# Altium footprint library HCPL4504.PcbLib: 1 footprints
Each footprint in its own frame and in the unit in brackets; x right, y up, seen from the top. Pads: shape width x height; smd on the part's side, far side on the other; paste and mask are expansions set on the pad; w line width, h text height; cw(c..) or ccw(c..) is an arc to the next point about the centre after c.
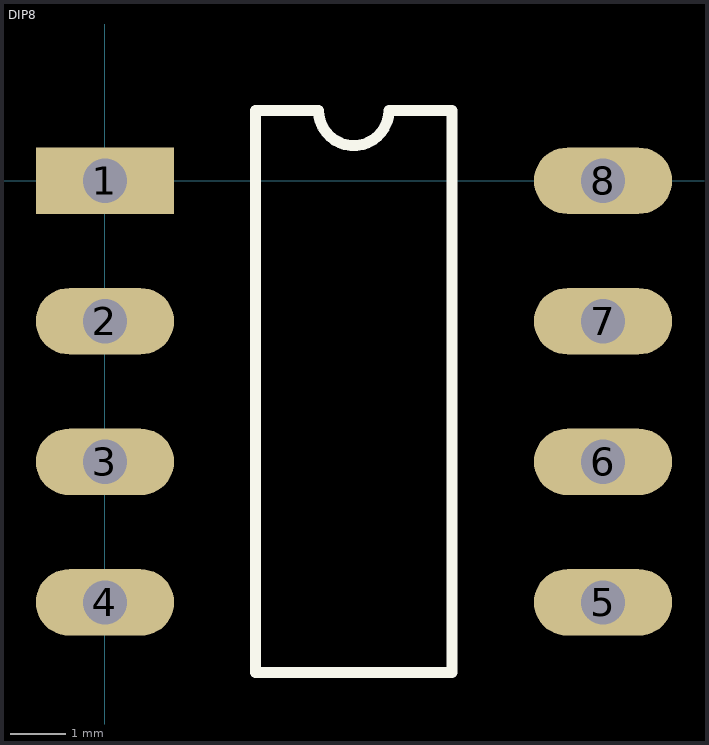
[diagram p0: the footprint, top view; thin cyan lines are the x and y axes]

## DIP8 [mm]
pads (8):
  rect 2.5x1.2 hole 0.8: 1(0,0)
  oval 2.5x1.2 hole 0.8: 2(0,-2.54) 3(0,-5.08) 4(0,-7.62) 5(9,-7.62) 6(9,-5.08) 7(9,-2.54) 8(9,0)
Top Overlay:
  lines w0.2: 2.72,-8.89 2.72,1.27 3.86,1.27 ccw(c4.495,1.27) 5.13,1.27 6.27,1.27 6.27,-8.89 2.72,-8.89
3D body: height 4.9, standoff -2.71, extent -0.759,-9.31 9.65,1.69